# Altium schematic symbol library maUWBModule.SchLib: 1 symbol
Pins are listed as number, name and electrical type; pins without a type are passive.

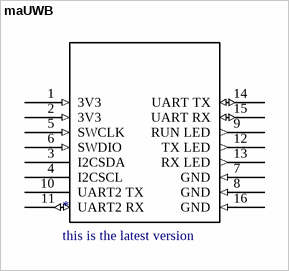
[diagram p0: symbol maUWB]

## maUWB
designator *, comment this is the latest version
footprint PCBComponent_1
pins: 1 3V3 (in) "3.3 V Power Input", 2 3V3 (in) "3.3 V Power Input", 3 I2CSDA "NC", 4 I2CSCL "NC", 5 SWCLK (in) "Module Download Port", 6 SWDIO (in) "Module Download Port", 7 GND (in), 8 GND (in), 9 RUN LED (out), 10 UART2 TX "NC", 11 UART2 RX (io) "Function 1: Pull down 3 second reset   Functon 2: Tag low power state, pull diwn any time to wake up", 12 TX LED (out) "Module UWB Transmit Indicator (Anchor Valid Tag Invalid)", 13 RX LED (out) "Module UWB Transmit Indicator (Anchor Invalid, Tag Valid)", 14 UART TX (io) "Module Serial Port TX", 15 UART RX (io) "Module Serial Port RX", 16 GND (in)